# Altium footprint library mypcblib.PcbLib: 90 footprints (part 5 of 6)
Each footprint in its own frame and in the unit in brackets; x right, y up, seen from the top. Pads: shape width x height; smd on the part's side, far side on the other; paste and mask are expansions set on the pad; w line width, h text height; cw(c..) or ccw(c..) is an arc to the next point about the centre after c.
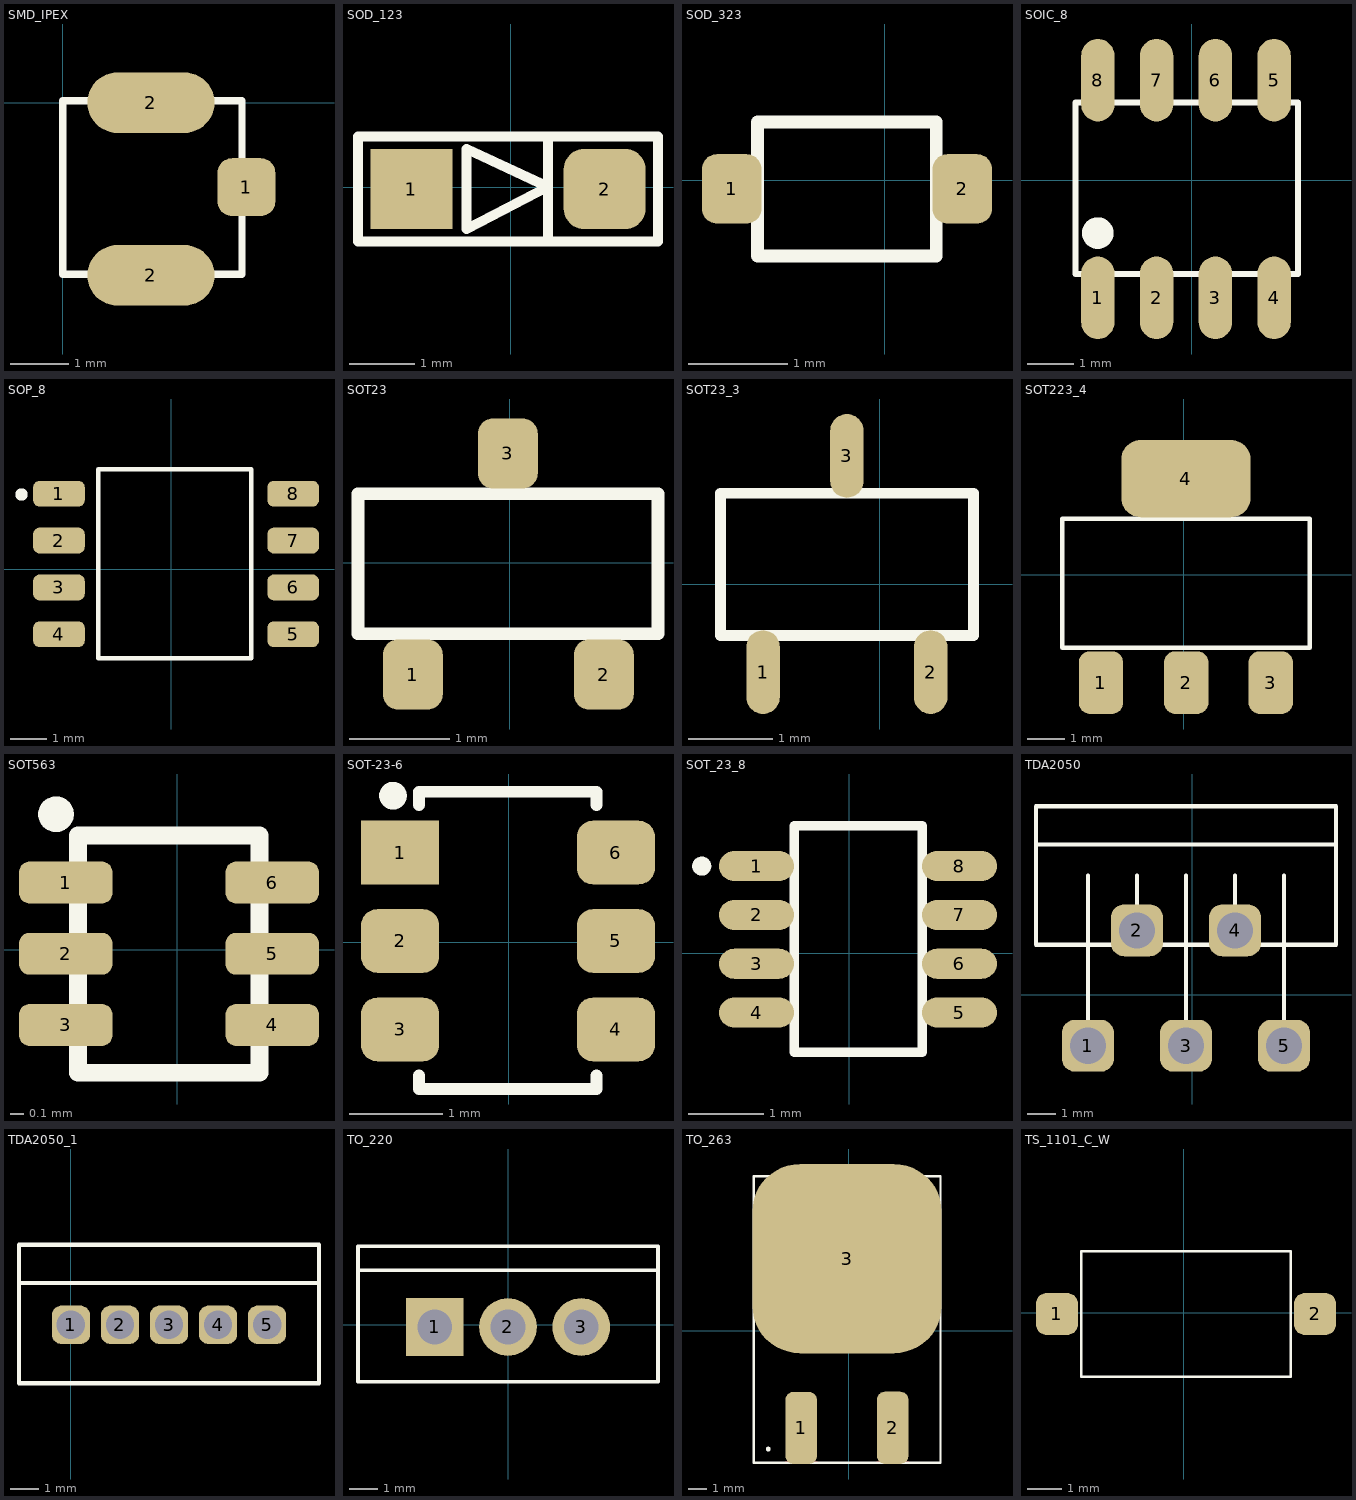
[diagram p4: the footprints below, top view; thin cyan lines are the x and y axes]

## SMD_IPEX [mm]
pads (3):
  rrect50% 1x1 smd: 1(3.175,-1.46)
  oval 2.2x1.05 smd: 2(1.524,-2.984) 2(1.524,0)
Top Overlay:
  lines w0.127: -0.001,-2.967 3.099,-2.967 3.099,0.033 -0.001,0.033 -0.001,-2.967

## SOD_123 [mm]
pads (2):
  rect 1.25x1.22 smd: 1(-1.515,-0.03)
  rrect50% 1.25x1.22 smd: 2(1.435,-0.03)
Top Overlay:
  lines w0.152: 0.57,-0.81 0.57,0.76 ; -2.33,-0.83 -2.33,0.77 2.25,0.77 2.25,-0.83 -2.33,-0.83 ; -0.67,-0.64 0.57,0.005 -0.67,0.58 -0.67,-0.64

## SOD_323 [mm]
pads (2):
  rrect50% 0.6x0.7 smd: 1(-1.54,-0.09) 2(0.78,-0.09)
Top Overlay:
  lines w0.127: -1.282,-0.766 -1.282,0.584 0.519,0.584 0.519,-0.766 -1.282,-0.766

## SOIC_8 [mm]
pads (8):
  oval 0.72x1.78 smd: 1(-2.032,-2.54) 2(-0.762,-2.54) 3(0.508,-2.54) 4(1.778,-2.54) 5(1.778,2.159) 6(0.508,2.159) 7(-0.762,2.159) 8(-2.032,2.159)
Top Overlay:
  circle w0.5: c-2.032,-1.143 r0.09
  lines w0.127: -2.515,-2.024 2.295,-2.024 2.295,1.676 -2.515,1.676 -2.515,-2.024
3D body "SOIC-8-1.STEP": height 1.75, standoff 0, extent -2.58,-3.2 2.32,2.8

## SOP_8 [mm]
pads (8):
  rrect50% 1.4x0.7 smd: 1(-3.048,2.052) 2(-3.048,0.782) 3(-3.048,-0.488) 4(-3.048,-1.758) 5(3.302,-1.758) 6(3.302,-0.488) 7(3.302,0.782) 8(3.302,2.052)
Top Overlay:
  circle w0.2: c-4.064,2.032 r0.067
  lines w0.127: -1.983,-2.077 -1.983,-1.427 ; -1.983,-0.807 -1.983,-0.157 ; -1.983,0.463 -1.983,1.113 ; -1.983,1.733 -1.983,2.383 ; 2.167,-1.427 2.167,-2.077 2.167,-0.807 2.167,-0.157 ; 2.167,0.463 2.167,1.113 ; 2.167,1.733 2.167,2.383 ; -1.983,-2.407 2.167,-2.407 2.167,2.713 -1.983,2.713 -1.983,-2.407

## SOT23 [mm]
pads (3):
  rrect50% 0.6x0.7 smd: 1(-0.97,-1.12) 2(0.94,-1.12) 3(-0.02,1.09)
Top Overlay:
  lines w0.127: -1.208,-0.714 -0.728,-0.714 ; -0.258,0.686 0.222,0.686 ; 0.692,-0.714 1.172,-0.714 ; -1.518,-0.714 -1.518,0.686 1.482,0.686 1.482,-0.714 -1.518,-0.714
3D body "CircuitWorks-SOT-23.STEP": height 1.1, standoff 0, extent -1.52,-1.29 1.48,1.21

## SOT23_3 [mm]
pads (3):
  oval 0.4x1 smd: 1(-1.39,-1.05) 2(0.61,-1.05) 3(-0.39,1.53)
Top Overlay:
  lines w0.127: -1.639,-0.614 -1.139,-0.614 ; -0.639,1.086 -0.139,1.086 ; 0.361,-0.614 0.861,-0.614 ; -1.899,-0.614 -1.899,1.086 1.121,1.086 1.121,-0.614 -1.899,-0.614
3D body "User Library-SOT23-3.STEP": height 1.3, standoff 0, extent -1.84,-1.21 1.06,1.59

## SOT223_4 [mm]
pads (4):
  rrect50% 1.2x1.7 smd: 1(-2.25,-2.92) 2(0.06,-2.92) 3(2.35,-2.92)
  rrect50% 3.5x2.1 smd: 4(0.05,2.61)
Top Overlay:
  lines w0.127: -2.846,-1.977 -1.646,-1.977 ; -1.696,1.523 1.804,1.523 ; -0.546,-1.977 0.654,-1.977 ; 1.754,-1.977 2.954,-1.977 ; -3.296,-1.977 3.404,-1.977 3.404,1.523 -3.296,1.523 -3.296,-1.977

## SOT563 [mm]
pads (6):
  rrect50% 0.67x0.3 smd: 1(-0.8,0.48) 2(-0.8,-0.03) 3(-0.8,-0.54) 4(0.68,-0.54) 5(0.68,-0.03) 6(0.68,0.48)
Top Overlay:
  circle w0.127: c-0.87,0.97 r0.064
  lines w0.127: -0.712,-0.883 0.588,-0.883 0.588,0.817 -0.712,0.817 -0.712,-0.883
3D body "User Library-SOT-563.STEP": height 0.58, standoff 0, extent -0.863,-0.82 0.763,0.78

## SOT-23-6 [mm]
pads (6):
  rect 0.839x0.684 smd: 1(-1.168,0.965)
  rrect50% 0.839x0.684 smd: 2(-1.168,0.015) 3(-1.168,-0.935) 4(1.149,-0.935) 5(1.149,0.015) 6(1.149,0.965)
Top Overlay:
  circle w0.152: c-1.245,1.575 r0.072
  lines w0.127: -0.965,-1.431 -0.965,-1.575 0.711,-1.575 0.94,-1.575 0.94,-1.431 ; -0.965,1.473 -0.965,1.617 -0.737,1.617 0.94,1.617 0.94,1.473

## SOT_23_8 [mm]
pads (8):
  oval 1x0.4 smd: 1(-1.23,1.16) 2(-1.23,0.51) 3(-1.23,-0.14) 4(-1.23,-0.79) 5(1.47,-0.79) 6(1.47,-0.14) 7(1.47,0.51) 8(1.47,1.16)
Top Overlay:
  circle w0.127: c-1.96,1.16 r0.063
  lines w0.127: -0.726,-1.321 -0.726,1.699 0.974,1.699 0.974,-1.321 -0.726,-1.321

## TDA2050 [mil]
pads (5):
  rrect50% 72.01x72.01 hole 50: 1(-145,-71) 2(-77,89) 3(-9,-71) 4(59,89) 5(127,-71)
Top Overlay:
  lines w6: -217,208 27,208 199,208 ; -145,-71 -145,164.98 ; -77,89 -77,164.98 ; -9,-71 -9,164.98 ; 59,89 59,164.98 ; 127,-71 127,164.98 ; -217,69 199,69 199,261.01 -217,261.01 -217,69

## TDA2050_1 [mm]
pads (5):
  rrect50% 1.35x1.35 hole 1: 1(0,5.613) 2(1.727,5.613) 3(3.454,5.613) 4(5.182,5.613) 5(6.909,5.613)
Top Overlay:
  lines w0.152: -1.829,7.087 4.369,7.087 8.738,7.087 ; -1.829,3.556 8.738,3.556 8.738,8.433 -1.829,8.433 -1.829,3.556

## TO_220 [mm]
pads (3):
  rect 2x2 hole 1.2: 1(-2.541,-0.076)
  round 2 hole 1.2: 2(-0.001,-0.076) 3(2.539,-0.076)
Top Overlay:
  lines w0.127: -5.2,1.89 5.2,1.89 ; -5.201,-1.976 -5.201,2.724 5.199,2.724 5.199,-1.976 -5.201,-1.976

## TO_263 [mm]
pads (3):
  rrect50% 1.75x4 smd: 1(-2.64,-5.38) 2(2.43,-5.37)
  rrect50% 10.5x10.5 smd: 3(-0.1,4.01)
Top Layer:
  lines w0.127: -3.514,-7.305 -1.764,-7.305 ; 1.566,-7.305 3.316,-7.305
Top Overlay:
  circle w0.127: c-4.47,-6.55 r0.064
  lines w0.127: -3.924,8.575 3.726,8.575 ; -5.279,-7.305 5.081,-7.305 5.081,8.575 -5.279,8.575 -5.279,-7.305

## TS_1101_C_W [mm]
pads (2):
  rrect50% 1.2x1.2 smd: 1(-3.64,-0.04) 2(3.76,-0.04)
Top Overlay:
  lines w0.08: -2.94,-1.84 -2.94,1.76 3.06,1.76 3.06,-1.84 -2.94,-1.84